# Altium footprint library PCB - CONNECTOR - WURTH - Wurth MMCX 66011002111501.PcbLib: 1 footprints
Each footprint in its own frame and in the unit in brackets; x right, y up, seen from the top. Pads: shape width x height; smd on the part's side, far side on the other; paste and mask are expansions set on the pad; w line width, h text height; cw(c..) or ccw(c..) is an arc to the next point about the centre after c.
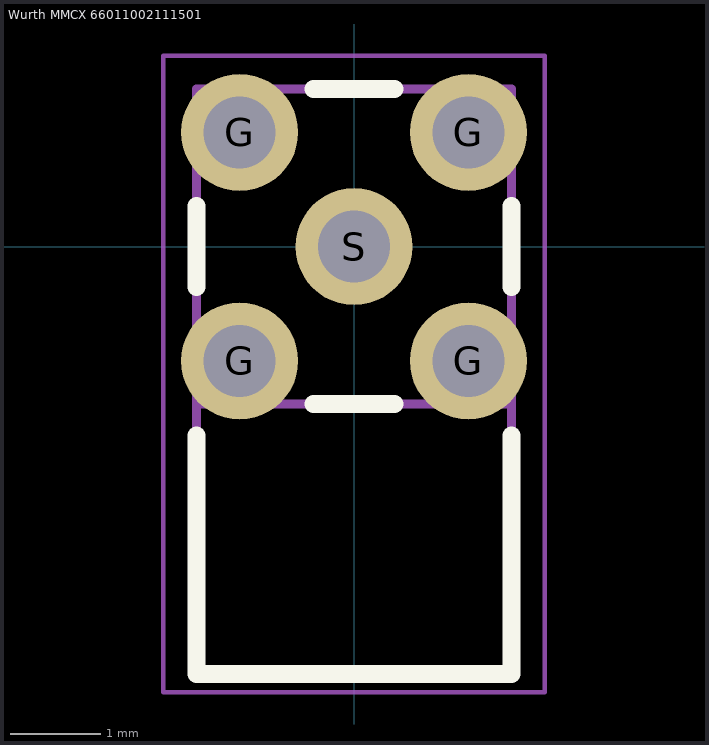
[diagram p0: the footprint, top view; thin cyan lines are the x and y axes]

## Wurth MMCX 66011002111501 [mm] "MMCX PCB THT Jack"
height 3.5
pads (5):
  round 1.3 hole 0.8: G(-1.27,-1.27) G(-1.27,1.27) G(1.27,-1.27) G(1.27,1.27) S(0,0)
Top Overlay:
  lines w0.2: -1.75,-2.1 -1.75,-4.75 1.75,-4.75 1.75,-2.1 ; -1.75,-0.45 -1.75,0.45 ; -0.45,-1.75 0.45,-1.75 ; -0.45,1.75 0.45,1.75 ; 1.75,-0.45 1.75,0.45
Top 3D Body:
  lines w0.1: -1.75,-1.75 1.75,-1.75 ; -1.75,-1.75 -1.75,1.75 1.75,1.75 1.75,-1.75 ; -1.75,-1.75 -1.75,-4.75 1.75,-4.75 1.75,-1.75
Top Component Outline:
  lines w0.1: -1.75,-1.75 -1.75,-4.75 1.75,-4.75 1.75,-1.75 ; -1.75,-1.75 -1.75,1.75 1.75,1.75 1.75,-1.75 ; -1.75,-1.75 1.75,-1.75
Top Courtyard:
  lines w0.05: -0.5,0 0.5,0 ; 0,-0.5 0,0.5 ; -2.12,-4.95 2.12,-4.95 2.12,2.12 -2.12,2.12 -2.12,-4.95
3D body "Wurth 66011002111501.step": height 3.8, standoff -2.5, extent -1.75,-4.75 1.75,1.75